# Altium footprint library wulpus.PcbLib: 62 footprints (part 3 of 4)
Each footprint in its own frame and in the unit in brackets; x right, y up, seen from the top. Pads: shape width x height; smd on the part's side, far side on the other; paste and mask are expansions set on the pad; w line width, h text height; cw(c..) or ccw(c..) is an arc to the next point about the centre after c.
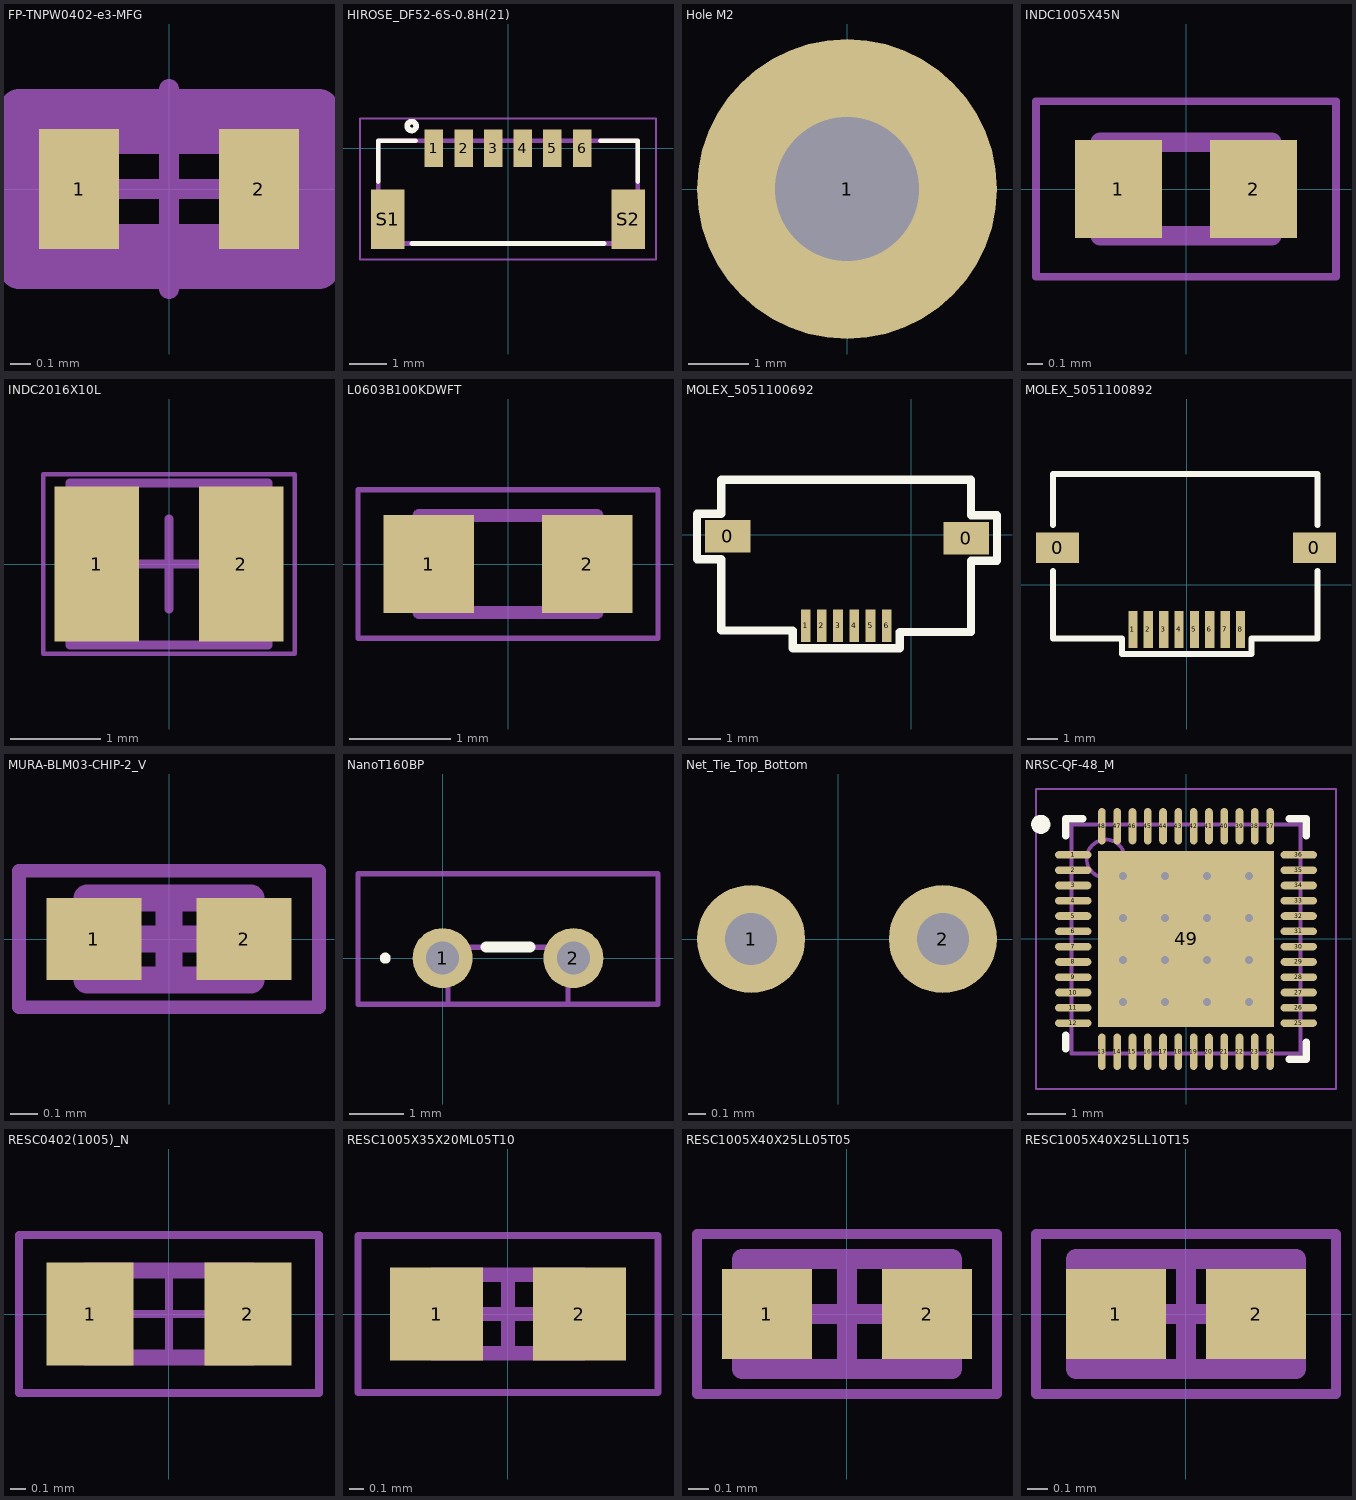
[diagram p2: the footprints below, top view; thin cyan lines are the x and y axes]

## FP-TNPW0402-e3-MFG [mm]
pads (2):
  rect 0.4x0.6 smd paste+0 mask+0: 1(-0.45,0) 2(0.45,0)
Top Assembly:
  lines w0.2: -0.75,-0.4 0.75,-0.4 0.75,0.4 -0.75,0.4 -0.75,-0.4
  text ".Designator" at 0,0.188 h1
Top 3D Body:
  lines w0.2: -0.525,-0.275 -0.525,0.275 0.525,0.275 0.525,-0.275 -0.525,-0.275
Top Courtyard:
  lines w0.2: -0.75,-0.4 0.75,-0.4 0.75,0.4 -0.75,0.4 -0.75,-0.4
Top Component Center:
  lines w0.1: -0.5,0 0.5,0 ; 0,-0.5 0,0.5
3D body "Res_Vishay_TNPW040210K0BEED_eec.STEP": height 0.25, standoff 0, extent -0.75,-0.4 0.75,0.4

## HIROSE_DF52-6S-0.8H(21) [mm]
pads (8):
  rect 0.5x1 smd: 1(-2,0) 2(-1.2,0) 3(-0.4,0) 4(0.4,0) 5(1.2,0) 6(2,0)
  rect 0.9x1.6 smd: S1(-3.25,-1.92) S2(3.25,-1.92)
Top Overlay:
  circle w0.15: c-2.6,0.6 r0.12
  lines w0.127: -3.5,-0.9 -3.5,0.2 -2.5,0.2 ; -2.6,-2.57 2.6,-2.57 ; 2.5,0.2 3.5,0.2 3.5,-0.9
Top 3D Body:
  lines w0.127: -3.5,-2.57 3.5,-2.57 3.5,0.2 -3.5,0.2 -3.5,-2.57
Top Courtyard:
  lines w0.05: -4,-3 4,-3 4,0.8 -4,0.8 -4,-3
3D body "DF52-6S-0.8H-21---3DModel-STEP-1.STEP": height 1.76, standoff 0.01, extent -3.5,-2.5 3.5,0.27

## Hole M2 [mm]
pads (1):
  round 5 / inner round 3 / far side round 5 hole 2.4: 1(0,0)
Top Solder:
  circle w1.9: c0,0 r0.95
Bottom Solder:
  circle w1.9: c0,0 r0.95

## INDC1005X45N [mm]
pads (2):
  rect 0.56x0.63 smd: 1(-0.435,0) 2(0.435,0)
Top 3D Body:
  lines w0.127: -0.55,-0.3 0.55,-0.3 0.55,0.3 -0.55,0.3 -0.55,-0.3
Top Courtyard:
  lines w0.05: -0.965,-0.565 0.965,-0.565 0.965,0.565 -0.965,0.565 -0.965,-0.565
3D body "LQP15MN3N9B02D.STEP": height 0.46, standoff 0.01, extent -0.5,-0.25 0.5,0.25

## INDC2016X10L [mm]
pads (2):
  rect 0.94x1.73 smd: 1(-0.805,0) 2(0.805,0)
Mechanical 12:
  lines w0.1: -1.1,-0.9 -1.1,0.9 1.1,0.9 1.1,-0.9 -1.1,-0.9
Top Courtyard:
  lines w0.05: -1.4,-1 -1.4,1 1.4,1 1.4,-1 -1.4,-1
  lines w0.1: -0.5,0 0.5,0 ; 0,-0.5 0,0.5
3D body "INDC2016X10L.step": height 1, standoff 0, extent -1.1,-0.9 1.1,0.9

## L0603B100KDWFT [mm]
pads (2):
  rect 0.9x0.97 smd: 1(-0.785,0) 2(0.785,0)
Top 3D Body:
  lines w0.127: -0.88,-0.48 -0.88,0.48 0.88,0.48 0.88,-0.48 -0.88,-0.48
Top Courtyard:
  lines w0.05: -1.485,-0.735 -1.485,0.735 1.485,0.735 1.485,-0.735 -1.485,-0.735
3D body "L0603B100KDWFT.STEP": height 0.81, standoff 0.01, extent -0.8,-0.467 0.8,0.483

## MOLEX_5051100692 [mm]
pads (8):
  rect 1.4x1 smd: 0(-5.65,-0.05) 0(1.7,-0.1)
  rect 0.3x1 smd: 1(-3.25,-2.8) 2(-2.75,-2.8) 3(-2.25,-2.8) 4(-1.75,-2.8) 5(-1.25,-2.8) 6(-0.75,-2.8)
Top Overlay:
  lines w0.254: -5.9,-0.75 -6.6,-0.75 -6.6,-0.1 -6.6,0.65 -5.85,0.65 -5.85,1.7 -5.15,1.7 1.85,1.7 1.85,0.6 2.65,0.6 2.65,-0.8 1.85,-0.8 1.85,-1.65 1.85,-3 ; -5.85,-0.75 -5.85,-1.75 -5.85,-2.95 -3.65,-2.95 -3.65,-3.5 -0.35,-3.5 -0.35,-3 0.2,-3 1.8,-3
3D body "5051100692.stp": height 1.88, standoff -0.02, extent -6.25,-3 2.25,2.3

## MOLEX_5051100892 [mm]
pads (10):
  rect 1.4x1 smd: 0(-4.2,1.2) 0(4.15,1.2)
  rect 0.3x1.2 smd: 1(-1.75,-1.45) 2(-1.25,-1.45) 3(-0.75,-1.45) 4(-0.25,-1.45) 5(0.25,-1.45) 6(0.75,-1.45) 7(1.25,-1.45) 8(1.75,-1.45)
Top Overlay:
  lines w0.2: -4.35,0.45 -4.35,-1.75 -2.1,-1.75 -2.1,-2.25 2.1,-2.25 2.1,-1.75 4.25,-1.75 4.25,0.45 ; -4.35,1.95 -4.35,3.6 4.25,3.6 4.25,1.95
3D body "5051100892.stp": height 1.88, standoff -0.02, extent -4.75,-1.65 4.75,3.65

## MURA-BLM03-CHIP-2_V [mm]
pads (2):
  rect 0.35x0.3 smd: 1(-0.275,0) 2(0.275,0)
Top 3D Body:
  lines w0.1: -0.3,-0.15 0.3,-0.15 0.3,0.15 -0.3,0.15 -0.3,-0.15
Top Courtyard:
  lines w0.05: -0.55,-0.25 -0.55,0.25 0.55,0.25 0.55,-0.25 -0.55,-0.25
  lines w0.1: -0.125,0 0.125,0 ; 0,-0.125 0,0.125
3D body: height 0.33, standoff 0, extent -0.3,-0.15 0.3,0.15

## NanoT160BP [mm]
pads (2):
  round 1.1 hole 0.6: 1(0,0) 2(2.4,0)
Top Overlay:
  lines w0.1: -1.1,0 cw(c-1.05,0) -1,0 cw(c-1.05,0) -1.1,0
  lines w0.2: 0.8,0.2 1.6,0.2
Top 3D Body:
  lines w0.1: 0.1,-0.85 2.3,-0.85 2.3,0.2 0.1,0.2 0.1,-0.85
Top Courtyard:
  lines w0.1: -1.55,-0.85 3.95,-0.85 3.95,1.55 -1.55,1.55 -1.55,-0.85
3D body "NANOT160BP.stp": height 0.46, standoff -1.34, extent 0.05,-1.5 2.35,0.15

## Net_Tie_Top_Bottom [mm]
pads (2):
  round 0.62 hole 0.3 mask+0.102: 1(-0.5,0) 2(0.6,0)
Multi-Layer:
  rectangle: -0.225,-0.1 0.325,0.1

## NRSC-QF-48_M [mm]
pads (49):
  oval 0.95x0.2 smd: 1(-2.95,2.2) 2(-2.95,1.8) 3(-2.95,1.4) 4(-2.95,1) 5(-2.95,0.6) 6(-2.95,0.2) 7(-2.95,-0.2) 8(-2.95,-0.6) 9(-2.95,-1) 10(-2.95,-1.4) 11(-2.95,-1.8) 12(-2.95,-2.2) 25(2.95,-2.2) 26(2.95,-1.8) 27(2.95,-1.4) 28(2.95,-1) 29(2.95,-0.6) 30(2.95,-0.2) 31(2.95,0.2) 32(2.95,0.6) 33(2.95,1) 34(2.95,1.4) 35(2.95,1.8) 36(2.95,2.2)
  oval 0.2x0.95 smd: 13(-2.2,-2.95) 14(-1.8,-2.95) 15(-1.4,-2.95) 16(-1,-2.95) 17(-0.6,-2.95) 18(-0.2,-2.95) 19(0.2,-2.95) 20(0.6,-2.95) 21(1,-2.95) 22(1.4,-2.95) 23(1.8,-2.95) 24(2.2,-2.95) 37(2.2,2.95) 38(1.8,2.95) 39(1.4,2.95) 40(1,2.95) 41(0.6,2.95) 42(0.2,2.95) 43(-0.2,2.95) 44(-0.6,2.95) 45(-1,2.95) 46(-1.4,2.95) 47(-1.8,2.95) 48(-2.2,2.95)
  rect 4.6x4.6 smd: 49(0,0)
via -1.65,1.65 diameter 0.5 hole 0.2
via -0.55,1.65 diameter 0.5 hole 0.2
via -1.65,0.55 diameter 0.5 hole 0.2
via -0.55,0.55 diameter 0.5 hole 0.2
via -1.65,-1.65 diameter 0.5 hole 0.2
via -1.65,-0.55 diameter 0.5 hole 0.2
via -0.55,-0.55 diameter 0.5 hole 0.2
via -0.55,-1.65 diameter 0.5 hole 0.2
via 0.55,0.55 diameter 0.5 hole 0.2
via 0.55,1.65 diameter 0.5 hole 0.2
via 1.65,1.65 diameter 0.5 hole 0.2
via 1.65,0.55 diameter 0.5 hole 0.2
via 0.55,-1.65 diameter 0.5 hole 0.2
via 0.55,-0.55 diameter 0.5 hole 0.2
via 1.65,-1.65 diameter 0.5 hole 0.2
via 1.65,-0.55 diameter 0.5 hole 0.2
Top Overlay:
  circle w0.25: c-3.8,3 r0.125
  lines w0.2: -3.15,-2.875 -3.15,-2.525 ; -3.15,2.7 -3.15,3.15 -2.7,3.15 ; 2.7,-3.15 3.15,-3.15 3.15,-2.7 ; 2.7,3.15 3.15,3.15 3.15,2.7
Top 3D Body:
  circle w0.1: c-2.1,2.1 r0.5
  lines w0.1: -3,-3 -3,3 3,3 3,-3 -3,-3
Top Courtyard:
  lines w0.05: -3.925,-3.925 -3.925,3.925 3.925,3.925 3.925,-3.925 -3.925,-3.925
  lines w0.1: -0.5,0 0.5,0 ; 0,-0.5 0,0.5
3D body: height 0.9, standoff 0, extent -3,-3 3,3

## RESC0402(1005)_N [mm]
pads (2):
  rect 0.55x0.65 smd: 1(-0.5,0) 2(0.5,0)
Top 3D Body:
  lines w0.1: -0.525,-0.275 -0.525,0.275 0.525,0.275 0.525,-0.275 -0.525,-0.275
Top Courtyard:
  lines w0.05: -0.275,0 0.275,0 ; 0,-0.275 0,0.275 ; -0.95,-0.5 -0.95,0.5 0.95,0.5 0.95,-0.5 -0.95,-0.5
3D body: height 0.4, standoff 0, extent -0.525,-0.275 -0.3,0.275
3D body: height 0.4, standoff 0, extent 0.3,-0.275 0.525,0.275
3D body: height 0.4, standoff 0, extent -0.3,-0.275 0.3,0.275

## RESC1005X35X20ML05T10 [mm]
pads (2):
  rect 0.65x0.65 smd: 1(-0.5,0) 2(0.5,0)
Top 3D Body:
  lines w0.1: -0.525,-0.275 -0.525,0.275 0.525,0.275 0.525,-0.275 -0.525,-0.275
Top Courtyard:
  lines w0.05: -1.05,-0.55 -1.05,0.55 1.05,0.55 1.05,-0.55 -1.05,-0.55
  lines w0.1: -0.275,0 0.275,0 ; 0,-0.275 0,0.275
3D body: height 0.35, standoff 0, extent -0.525,-0.275 -0.325,0.275
3D body: height 0.35, standoff 0, extent 0.325,-0.275 0.525,0.275
3D body: height 0.35, standoff 0, extent -0.325,-0.275 0.325,0.275

## RESC1005X40X25LL05T05 [mm]
pads (2):
  rect 0.45x0.45 smd: 1(-0.4,0) 2(0.4,0)
Top 3D Body:
  lines w0.1: -0.525,-0.275 0.525,-0.275 0.525,0.275 -0.525,0.275 -0.525,-0.275
Top Courtyard:
  lines w0.05: -0.75,-0.4 -0.75,0.4 0.75,0.4 0.75,-0.4 -0.75,-0.4
  lines w0.1: -0.275,0 0.275,0 ; 0,-0.275 0,0.275
3D body: height 0.4, standoff 0, extent 0.275,-0.275 0.525,0.275
3D body: height 0.4, standoff 0, extent -0.275,-0.275 0.275,0.275
3D body: height 0.4, standoff 0, extent -0.525,-0.275 -0.275,0.275

## RESC1005X40X25LL10T15 [mm]
pads (2):
  rect 0.5x0.45 smd: 1(-0.35,0) 2(0.35,0)
Top 3D Body:
  lines w0.1: -0.55,-0.275 0.55,-0.275 0.55,0.275 -0.55,0.275 -0.55,-0.275
Top Courtyard:
  lines w0.05: -0.75,-0.4 0.75,-0.4 0.75,0.4 -0.75,0.4 -0.75,-0.4
  lines w0.1: -0.275,0 0.275,0 ; 0,-0.275 0,0.275
3D body "RESC1005X04L.step": height 0.4, standoff 0, extent -0.55,-0.275 0.55,0.275